# Altium schematic symbol library Schlib1.SchLib: 8 symbols
Pins are listed as number, name and electrical type; pins without a type are passive.

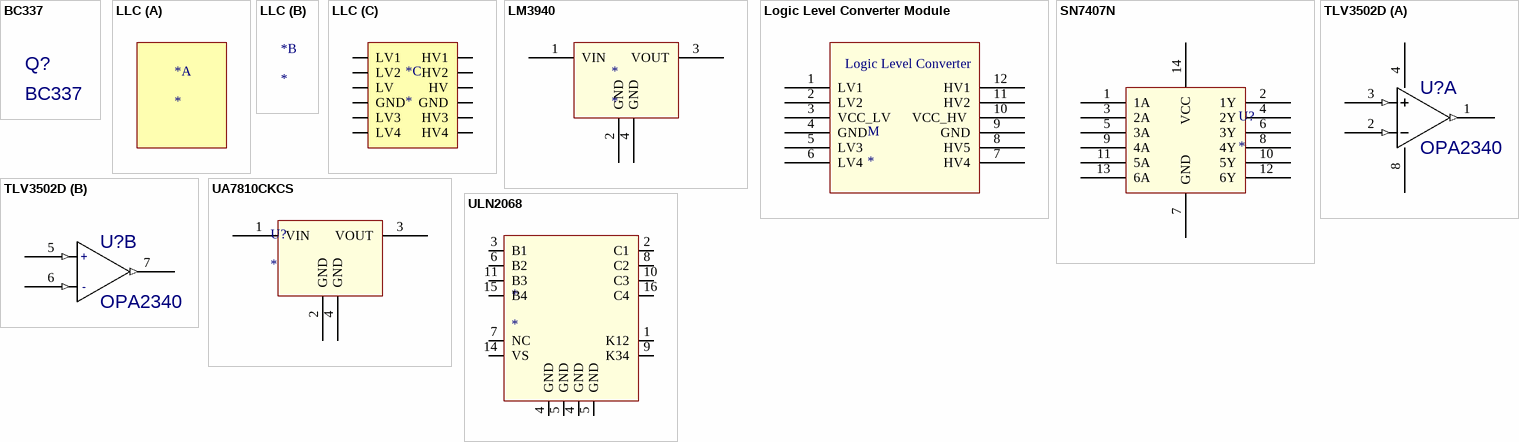
[diagram p0: symbols BC337 to ULN2068]

## BC337
designator Q?
Transistor, NPN, 300MHz, 40V, 200mA, SOT-23 pkg
footprint TO-92 (Footprint not found)

## LLC
designator *
part C pins: GND, GND, HV, HV1, HV2, HV3, HV4, LV, LV1, LV2, LV3, LV4

## LM3940
designator *
pins: 1 VIN, 2 GND, 3 VOUT, 4 GND

## Logic Level Converter Module
designator M
footprint 12PIN_MODULE (Footprint not found)
pins: 1 LV1, 2 LV2, 3 VCC_LV, 4 GND, 5 LV3, 6 LV4, 7 HV4, 8 HV5, 9 GND, 10 VCC_HV , 11 HV2, 12 HV1
text: Logic Level Converter

## SN7407N
designator U?
footprint 16DIP (Footprint not found)
pins: 1 1A, 2 1Y, 3 2A , 4 2Y, 5 3A, 6 3Y, 7 GND, 8 4Y, 9 4A, 10 5Y, 11 5A, 12 6Y, 13 6A, 14 VCC

## TLV3502D
designator U?, comment OPA2340
IC, Dual Comparator, Rail-Rail, Hi-Speed, SOIC pkg
footprint DIP8 (Footprint not found)
part A pins: 1 OUT (out), 2 IN- (in), 3 IN+ (in), 4 VEE (power), 8 VCC (power)
part B pins: 5 IN+ (in), 6 IN- (in), 7 OUT (out)
part B text: +; -

## UA7810CKCS
designator U?
footprint TO-220 (Footprint not found)
pins: 1 VIN, 2 GND, 3 VOUT, 4 GND

## ULN2068
designator *
pins: 1 K12, 2 C1, 3 B1, 4 GND, 4 GND, 5 GND, 5 GND, 6 B2, 7 NC, 8 C2, 9 K34, 10 C3, 11 B3, 14 VS, 15 B4, 16 C4